# EAGLE library part SM453229-381N7Y (library bourns_2020)
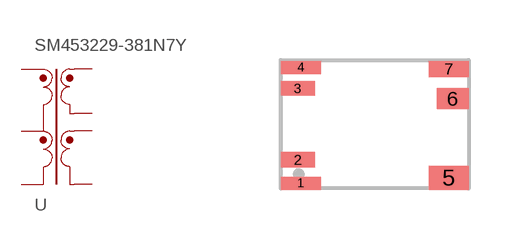
[diagram p0: symbol with the pads of 453229; footprint 453229]

Designator prefix -

## SM453229-381N7Y  [453229]
1  1  pas
2  2  pas
3  3  pas
4  4  pas
5  5  pas
6  6  pas
7  7  pas

## Footprint 453229 (pad centres in mm)
smd 1 x 0.32: 1 -1.85,-1.48; 4 -1.85,1.42
smd 0.85 x 0.38: 2 -1.925,-0.89
smd 0.85 x 0.36: 3 -1.925,0.9
smd 1 x 0.6: 5 1.85,-1.34
smd 0.8 x 0.52: 6 1.95,0.64
smd 1 x 0.4: 7 1.85,1.38